# EAGLE library part ADT7461ARMZ (library On Semiconductor)
Temperature Monitor
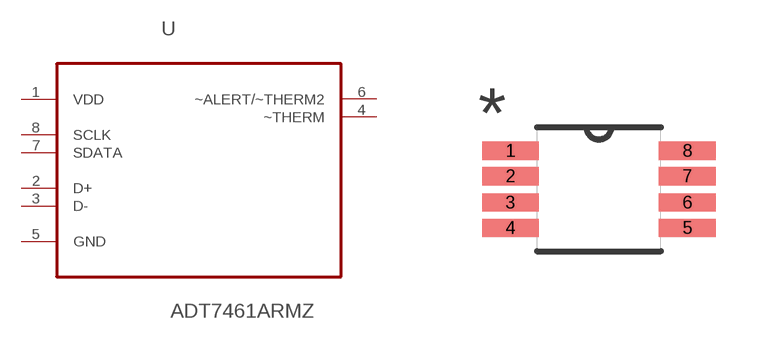
[diagram p5: symbol with the pads of SOP65P490X110-8N; footprint SOP65P490X110-8N]

Designator prefix U

## ADT7461ARMZ (MPN: ADT7461ARMZ; OC_FARNELL: -; OC_NEWARK: 19M8743; PACKAGE: MSOP-8; SUPPLIER: ON SEMICONDUCTOR)  [SOP65P490X110-8N]
1  VDD  pwr
2  D+  in
3  D-  in
4  ~THERM  out
5  GND  pas
6  ~ALERT/~THERM2  out
7  SDATA
8  SCLK  in

## Footprint SOP65P490X110-8N (pad centres in mm)
smd 1.422 x 0.457: 1 -2.21,0.965; 2 -2.21,0.33; 3 -2.21,-0.33; 4 -2.21,-0.965; 5 2.21,-0.965; 6 2.21,-0.33; 7 2.21,0.33; 8 2.21,0.965